# Altium footprint library 3216x4.PcbLib: 1 footprints
Each footprint in its own frame and in the unit in brackets; x right, y up, seen from the top. Pads: shape width x height; smd on the part's side, far side on the other; paste and mask are expansions set on the pad; w line width, h text height; cw(c..) or ccw(c..) is an arc to the next point about the centre after c.
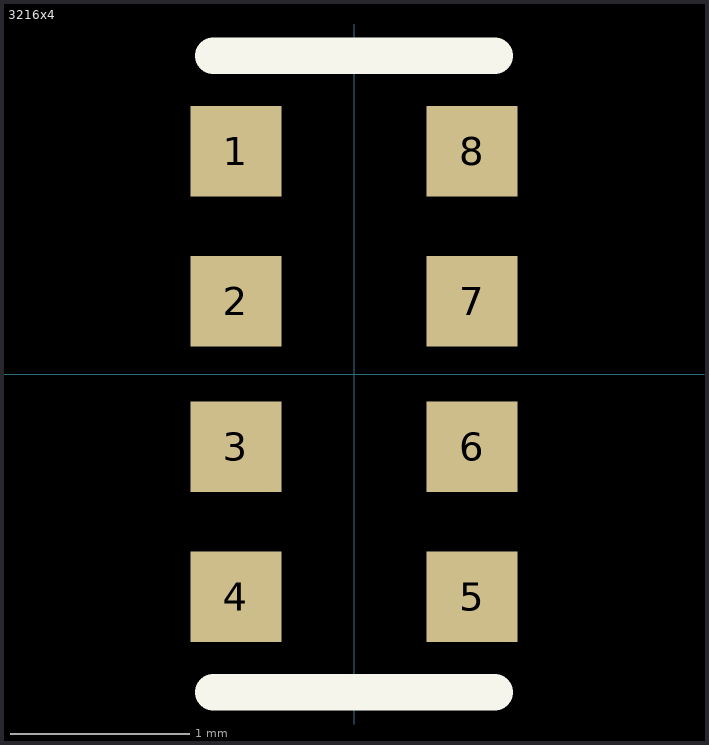
[diagram p0: the footprint, top view; thin cyan lines are the x and y axes]

## 3216x4 [mil]
height 35
pads (8):
  rect 20x20 smd: 1(-26,49) 2(-26,16) 3(-26,-16) 4(-26,-49) 5(26,-49) 6(26,-16) 7(26,16) 8(26,49)
TopOverlay:
  lines w8: -31,-70 31,-70 ; -31,70 31,70
3D body: height 21.65, standoff 0, extent -31.49,-62.99 31.5,63